# EAGLE library part DRV8703QRHBRQ1 (library DRV8703QRHBRQ1)
Automotive Brushed DC Gate Driver Source: Datasheet <http://www.ti.com/lit/gpn/drv8703-q1>
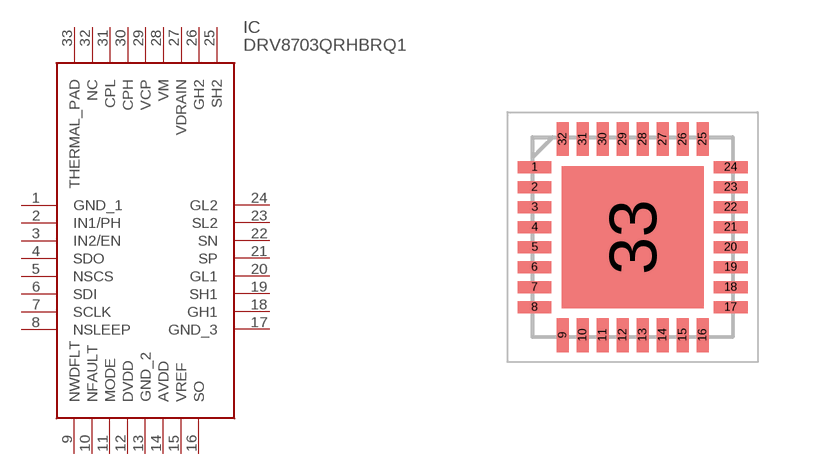
[diagram p0: symbol with the pads of QFN50P500X500X90-33N; footprint QFN50P500X500X90-33N]

Designator prefix IC

## DRV8703QRHBRQ1 (Arrow_Part_Number: DRV8703QRHBRQ1; Arrow_Price-Stock: https://www.arrow.com/en/products/drv8703qrhbrq1/texas-instruments?region=nac; Description: Automotive Brushed DC Gate Driver; Height: 0.9mm; Manufacturer_Name: Texas Instruments; Manufacturer_Part_Number: DRV8703QRHBRQ1; Mouser_Part_Number: 595-DRV8703QRHBRQ1; Mouser_Price-Stock: https://www.mouser.co.uk/ProductDetail/Texas-Instruments/DRV8703QRHBRQ1?qs=%2FP2Ij7fVdhHVZvt8gQ%252BCWA%3D%3D)  [QFN50P500X500X90-33N]
1  GND_1
2  IN1/PH
3  IN2/EN
4  SDO
5  NSCS
6  SDI
7  SCLK
8  NSLEEP
9  NWDFLT
10  NFAULT
11  MODE
12  DVDD
13  GND_2
14  AVDD
15  VREF
16  SO
17  GND_3
18  GH1
19  SH1
20  GL1
21  SP
22  SN
23  SL2
24  GL2
25  SH2
26  GH2
27  VDRAIN
28  VM
29  VCP
30  CPH
31  CPL
32  NC  nc
33  THERMAL_PAD

## Footprint QFN50P500X500X90-33N (pad centres in mm)
RHB0032N
smd 0.85 x 0.3: 1 -2.45,1.75; 2 -2.45,1.25; 3 -2.45,0.75; 4 -2.45,0.25; 5 -2.45,-0.25; 6 -2.45,-0.75; 7 -2.45,-1.25; 8 -2.45,-1.75; 17 2.45,-1.75; 18 2.45,-1.25; 19 2.45,-0.75; 20 2.45,-0.25; 21 2.45,0.25; 22 2.45,0.75; 23 2.45,1.25; 24 2.45,1.75
smd 0.3 x 0.85: 9 -1.75,-2.45; 10 -1.25,-2.45; 11 -0.75,-2.45; 12 -0.25,-2.45; 13 0.25,-2.45; 14 0.75,-2.45; 15 1.25,-2.45; 16 1.75,-2.45; 25 1.75,2.45; 26 1.25,2.45; 27 0.75,2.45; 28 0.25,2.45; 29 -0.25,2.45; 30 -0.75,2.45; 31 -1.25,2.45; 32 -1.75,2.45
smd 3.55 x 3.55: 33 0,0